# EAGLE library part ATTINY2313 (library ungood)
MICROCONTROLLER ATtiny2313/4313
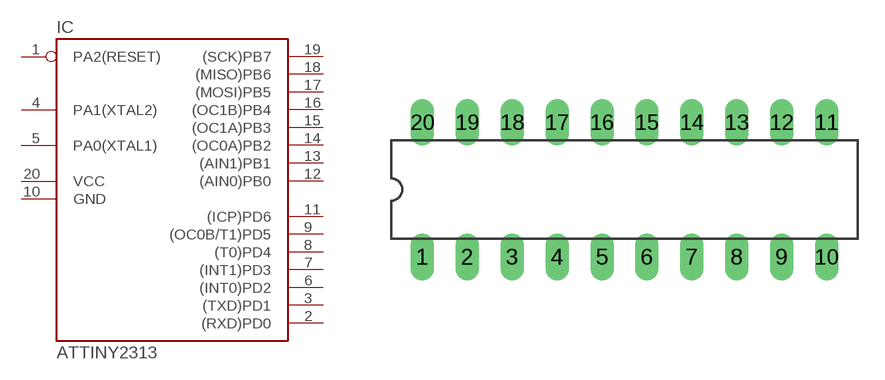
[diagram p2: symbol with the pads of DIL20; footprint DIL20]

Designator prefix IC

## ATTINY2313P  [DIL20]
1  PA2(RESET)
2  (RXD)PD0
3  (TXD)PD1
4  PA1(XTAL2)
5  PA0(XTAL1)
6  (INT0)PD2
7  (INT1)PD3
8  (T0)PD4
9  (OC0B/T1)PD5
10  GND  pwr
11  (ICP)PD6
12  (AIN0)PB0
13  (AIN1)PB1
14  (OC0A)PB2
15  (OC1A)PB3
16  (OC1B)PB4
17  (MOSI)PB5
18  (MISO)PB6
19  (SCK)PB7
20  VCC  pwr

## Footprint DIL20 (pad centres in mm)
Dual In Line
drill 0.813 long: 1 -11.43,-3.81; 2 -8.89,-3.81; 3 -6.35,-3.81; 4 -3.81,-3.81; 5 -1.27,-3.81; 6 1.27,-3.81; 7 3.81,-3.81; 8 6.35,-3.81; 9 8.89,-3.81; 10 11.43,-3.81; 11 11.43,3.81; 12 8.89,3.81; 13 6.35,3.81; 14 3.81,3.81; 15 1.27,3.81; 16 -1.27,3.81; 17 -3.81,3.81; 18 -6.35,3.81; 19 -8.89,3.81; 20 -11.43,3.81